# EAGLE library part 24CONN (library GPIB_2012)
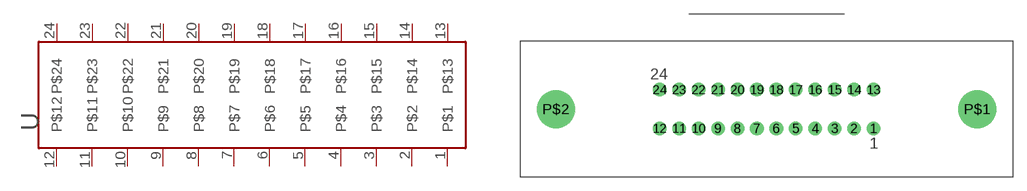
[diagram p3: symbol with the pads of 24CONN; footprint 24CONN]

Designator prefix -

## 24CONN24  [24CONN]
1  P$1
2  P$2
3  P$3
4  P$4
5  P$5
6  P$6
7  P$7
8  P$8
9  P$9
10  P$10
11  P$11
12  P$12
13  P$13
14  P$14
15  P$15
16  P$16
17  P$17
18  P$18
19  P$19
20  P$20
21  P$21
22  P$22
23  P$23
24  P$24

## Footprint 24CONN (pad centres in mm)
drill 1 round: 1 11.88,-2.145; 2 9.72,-2.145; 3 7.56,-2.145; 4 5.4,-2.145; 5 3.24,-2.145; 6 1.08,-2.145; 7 -1.08,-2.145; 8 -3.24,-2.145; 9 -5.4,-2.145; 10 -7.56,-2.145; 11 -9.72,-2.145; 12 -11.88,-2.145; 13 11.88,2.145; 14 9.72,2.145; 15 7.56,2.145; 16 5.4,2.145; 17 3.24,2.145; 18 1.08,2.145; 19 -1.08,2.145; 20 -3.24,2.145; 21 -5.4,2.145; 22 -7.56,2.145; 23 -9.72,2.145; 24 -11.88,2.145
drill 3.2 round: P$1 23.4,0; P$2 -23.4,0